# Altium footprint library Passive_Device.PcbLib: 14 footprints
Each footprint in its own frame and in the unit in brackets; x right, y up, seen from the top. Pads: shape width x height; smd on the part's side, far side on the other; paste and mask are expansions set on the pad; w line width, h text height; cw(c..) or ccw(c..) is an arc to the next point about the centre after c.
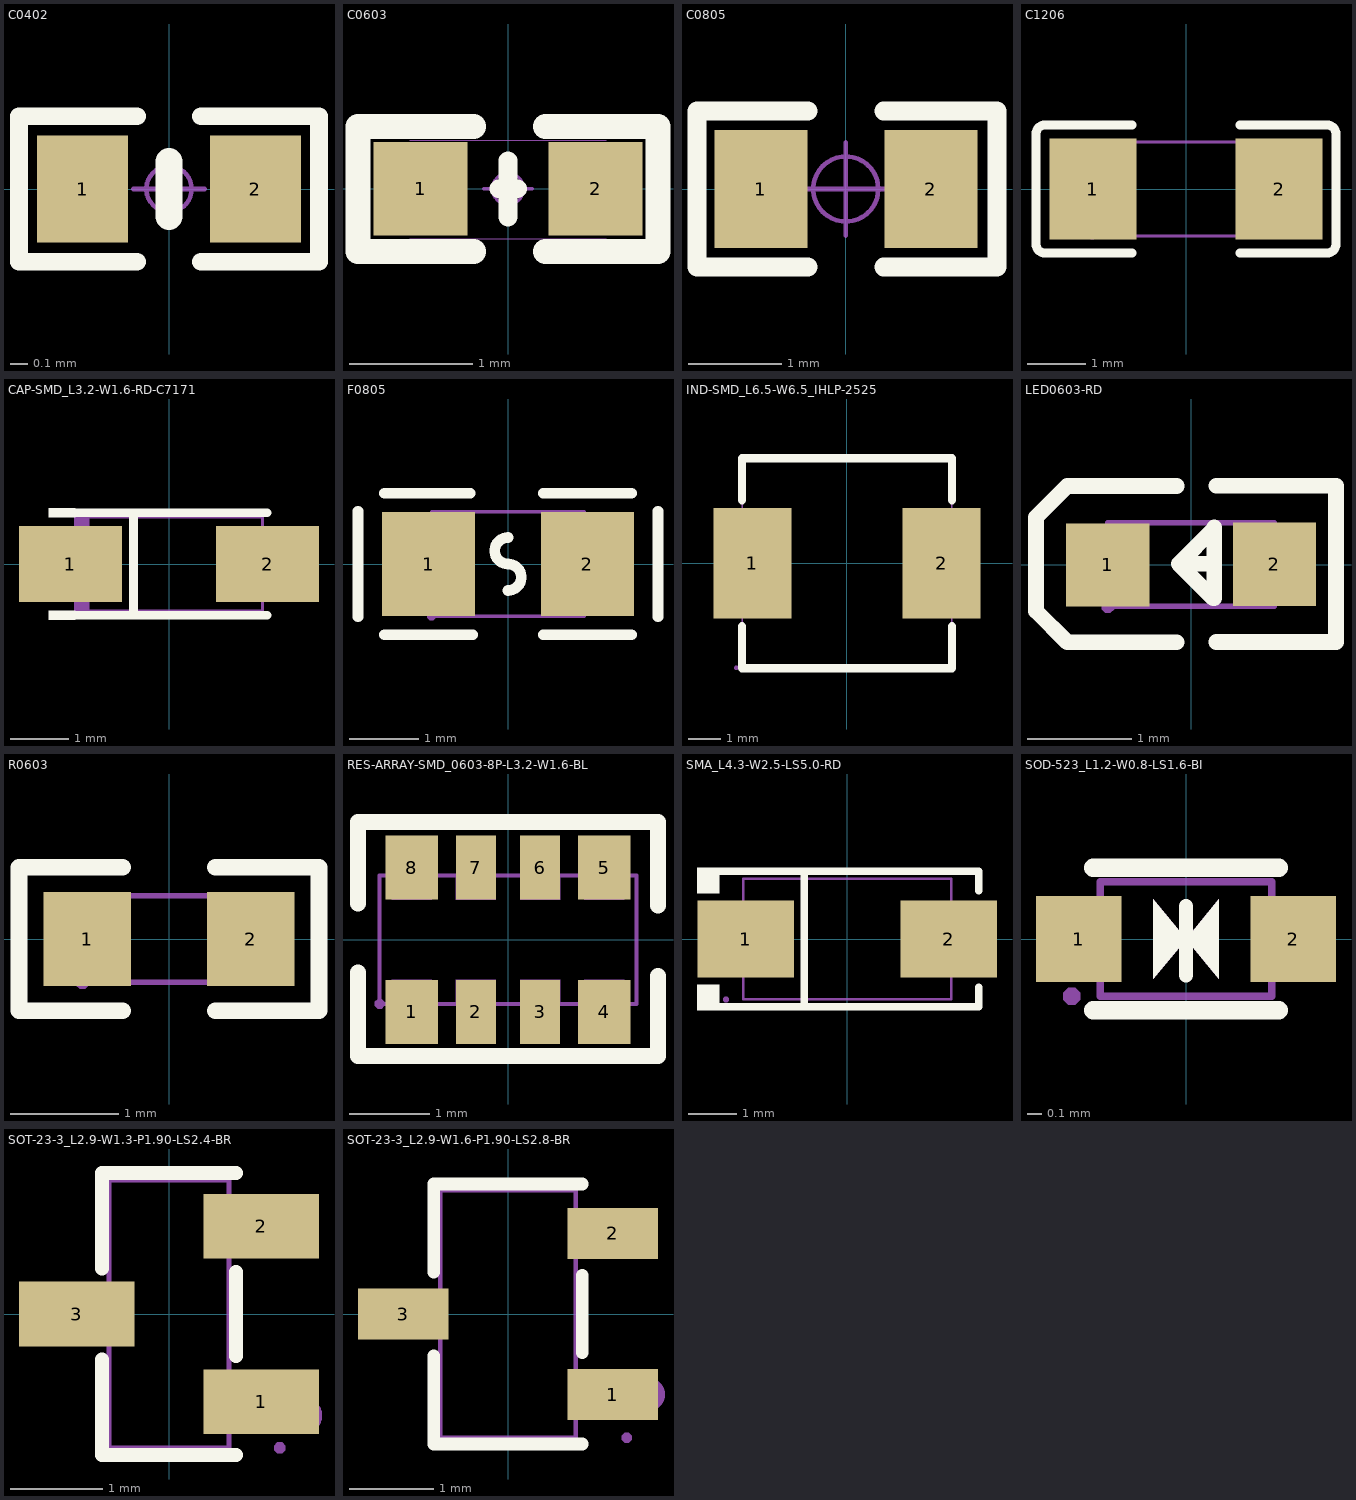
[diagram p0: the footprints below, top view; thin cyan lines are the x and y axes]

## C0402 [mil] "无极性贴片电容"
pads (2):
  rect 20x23.62 smd mask+2: 1(-19,0) 2(19,0)
Top Overlay:
  lines w3.94: -7,-16 -33,-16 -33,16 -7,16 ; 7,-16 33,-16 33,16 7,16
  lines w6: 0,-6 0,6
Mechanical 15:
  circle w1: c0,0 r5
  lines w1: -7.87,0 7.88,0 ; 0,-7.87 0,7.88
3D body "C 0402.STEP": height 20.08, standoff -0.39, extent -19.69,-10.24 19.69,10.24

## C0603 [mil] "无极性贴片电容"
pads (2):
  rect 30x30 smd mask+2: 1(-28,0) 2(28,0)
Top Overlay:
  lines w6: -3,0 0,0 3,0 ; 0,-9 0,9
  lines w7.87: -11,-20.06 -48,-20.06 -48,19.94 -11,19.94 ; 12,-20.06 48,-20.06 48,19.94 12,19.94
Mechanical 13:
  lines w0.39: -31.5,-16 31.5,-16 ; -31.5,15.5 31.5,15.5
Mechanical 15:
  circle w1: c0,0 r5
  lines w1: -7.87,0 7.87,0 ; 0,-7.87 0,7.87
3D body "C 0603.STEP": height 31.89, standoff -0.39, extent -31.5,-16.14 31.5,16.14

## C0805 [mm] "无极性贴片电容"
height 0.5
pads (2):
  rect 1x1.27 smd: 1(-0.914,0) 2(0.914,0)
Top Overlay:
  lines w0.2: -0.406,-0.838 -1.6,-0.838 -1.6,0.838 -0.406,0.838 ; 0.406,-0.838 1.626,-0.838 1.626,0.838 0.406,0.838
Mechanical 15:
  circle w0.05: c0,0 r0.35
  lines w0.05: -0.5,0 0.5,0 ; 0,-0.5 0,0.5
3D body "C 0805.STEP": height 0.51, standoff -0.01, extent -1,-0.61 1,0.61

## C1206 [mm] "无极性贴片电容"
pads (2):
  rect 1.485x1.728 smd paste-100 mask+0.051: 1(-1.593,0) 2(1.593,0)
Top Overlay:
  lines w0.152: -0.926,-1.093 -2.411,-1.093 cw(c-2.411,-0.94) -2.564,-0.94 -2.564,0.94 cw(c-2.411,0.94) -2.411,1.093 -0.926,1.093 ; 0.926,-1.093 2.411,-1.093 ccw(c2.411,-0.94) 2.564,-0.94 2.564,0.94 ccw(c2.411,0.94) 2.411,1.093 0.926,1.093
Top Paste:
  region: -0.85,-0.764 -0.85,-0.394 -0.95,-0.294 -1.255,-0.294 -1.355,-0.194 -1.355,0.194 -1.255,0.294 -0.95,0.294 -0.85,0.394 -0.85,0.764 -0.95,0.864 -2.235,0.864 -2.335,0.764 -2.335,-0.764 -2.235,-0.864 -0.95,-0.864
  region: 0.85,-0.764 0.85,-0.394 0.95,-0.294 1.255,-0.294 1.355,-0.194 1.355,0.194 1.255,0.294 0.95,0.294 0.85,0.394 0.85,0.764 0.95,0.864 2.235,0.864 2.335,0.764 2.335,-0.764 2.235,-0.864 0.95,-0.864
Mechanical 15:
  region: 1.6,-0.8 1.6,0.8 1.1,0.8 1.1,-0.8
  region: -1.6,-0.8 -1.6,0.8 -1.1,0.8 -1.1,-0.8
  region: -1.54,-0.8 -1.54,-0.775 -1.575,-0.74 -1.625,-0.74 -1.66,-0.775 -1.66,-0.8 -1.66,-0.825 -1.625,-0.86 -1.575,-0.86 -1.54,-0.825 -1.54,-0.8
  lines w0.051: -1.6,-0.8 1.6,-0.8 1.6,0.8 -1.6,0.8 -1.6,-0.8
3D body "User Library-C1206-1.STEP": height 1.11, standoff -0.01, extent -1.727,-0.81 1.473,0.81

## CAP-SMD_L3.2-W1.6-RD-C7171 [mm]
pads (2):
  rect 1.758x1.296 smd paste+0 mask+0.051: 1(-1.686,0) 2(1.686,0)
Top Overlay:
  region: -1.6,0.952 -1.6,0.8 -2.057,0.8 -2.057,0.952
  region: -1.6,-0.952 -1.6,-0.8 -2.057,-0.8 -2.057,-0.952
  lines w0.152: -1.676,-0.876 1.676,-0.876 ; -1.676,0.876 1.676,0.876 ; -0.604,-0.876 -0.604,0.876
Mechanical 6:
  region: -1.6,-0.8 -1.6,-0.4 -1.36,-0.4 -1.36,-0.8
  region: -1.6,0.8 -1.6,0.4 -1.36,0.4 -1.36,0.8
  region: -1.3,0.4 -1.3,-0.4 -1.18,-0.4 -1.18,0.4
  region: -1.48,0.06 -1.48,-0.06 -1,-0.06 -1,0.06
  region: 1.48,0.06 1.48,-0.06 1,-0.06 1,0.06
Mechanical 15:
  region: -1.83,0.6 -1.83,-0.6 -0.98,-0.6 -0.98,0.6
  region: 1.83,0.6 1.83,-0.6 0.98,-0.6 0.98,0.6
  region: -1.718,0.889 -1.718,0.914 -1.753,0.949 -1.803,0.949 -1.838,0.914 -1.838,0.889 -1.838,0.864 -1.803,0.829 -1.753,0.829 -1.718,0.864 -1.718,0.889
  lines w0.051: -1.6,-0.8 -1.6,0.8 1.6,0.8 1.6,-0.8 -1.6,-0.8
3D body "CAP-SMD_L3.2-W1.6-RD-C7171.STEP": height 1.7, standoff 0, extent -1.727,-0.8 1.473,0.8

## F0805 [mm]
pads (2):
  rect 1.335x1.5 smd paste-100 mask+0.051: 1(-1.142,0) 2(1.142,0)
Top Overlay:
  lines w0.152: -2.159,-0.762 -2.159,0.762 ; -1.778,-1.016 -0.508,-1.016 ; -1.778,1.016 -0.545,1.016 ; 0,-0.381 ccw(c0,-0.191) 0,0 cw(c0,0.191) 0,0.381 ; 0.508,-1.016 1.778,-1.016 ; 0.508,1.016 1.778,1.016 ; 2.159,-0.762 2.159,0.762
Top Paste:
  region: 0.475,-0.62 0.475,-0.2 0.92,-0.2 0.92,0.25 0.48,0.25 0.475,0.66 0.525,0.71 1.675,0.71 1.725,0.66 1.725,-0.62 1.675,-0.67 0.525,-0.67
  region: -1.675,-0.62 -1.675,0.66 -1.625,0.71 -0.475,0.71 -0.425,0.66 -0.42,0.25 -0.87,0.25 -0.87,-0.2 -0.43,-0.2 -0.425,-0.62 -0.475,-0.67 -1.625,-0.67
Mechanical 15:
  region: 1.1,-0.75 0.9,-0.75 0.9,0.75 1.1,0.75
  region: -1.1,0.75 -0.9,0.75 -0.9,-0.75 -1.1,-0.75
  region: -1.04,-0.75 -1.04,-0.725 -1.075,-0.69 -1.125,-0.69 -1.16,-0.725 -1.16,-0.75 -1.16,-0.775 -1.125,-0.81 -1.075,-0.81 -1.04,-0.775 -1.04,-0.75
  lines w0.051: -1.1,-0.75 1.1,-0.75 1.1,0.75 -1.1,0.75 -1.1,-0.75
3D body "F0805.STEP": height 0.8, standoff 0, extent -1.05,-0.7 1.05,0.7

## IND-SMD_L6.5-W6.5_IHLP-2525 [mm] "贴片电感"
pads (2):
  rect 2.42x3.43 smd paste+0 mask+0.051: 1(-2.925,0) 2(2.925,0)
Top Overlay:
  lines w0.254: -3.25,-1.946 -3.25,-3.25 3.25,-3.25 3.25,-1.946 ; -3.25,1.946 -3.25,3.25 3.25,3.25 3.25,1.946
Mechanical 15:
  region: 2.156,1.59 3.426,1.59 3.426,-1.59 2.156,-1.59
  region: -3.425,1.59 -2.155,1.59 -2.155,-1.59 -3.425,-1.59
  region: -3.365,-3.235 -3.365,-3.21 -3.401,-3.175 -3.45,-3.175 -3.485,-3.21 -3.485,-3.235 -3.485,-3.26 -3.45,-3.295 -3.401,-3.295 -3.365,-3.26 -3.365,-3.235
  lines w0.051: -3.235,-3.235 3.235,-3.235 3.235,3.235 -3.235,3.235 -3.235,-3.235
3D body "IND-SMD_L6.5-W6.5_IHLP-2525.STEP": height 2.97, standoff -0.03, extent -3.43,-3.235 3.43,3.235

## LED0603-RD [mm] "LED0603"
pads (2):
  rect 0.8x0.8 smd paste+0 mask+0.051: 1(-0.799,-0.003) 2(0.799,0.003)
Top Overlay:
  lines w0.15: -0.14,-0.746 -1.19,-0.746 -1.49,-0.446 -1.49,-0.346 -1.49,0.354 -1.49,0.454 -1.19,0.754 -0.14,0.754 ; 0.22,0.007 -0.12,0.007 ; 0.24,-0.744 1.39,-0.744 ; 0.24,0.757 1.39,0.757 1.39,-0.723 ; -0.12,0.007 0.22,0.347 0.22,0.357 0.22,-0.324 0.21,-0.324 -0.12,0.007
Mechanical 6:
  region: 0.529,0.068 1.069,0.068 1.069,-0.062 0.529,-0.062
  region: 0.735,-0.267 0.735,0.273 0.865,0.273 0.865,-0.267
  region: -1.07,0.062 -0.53,0.062 -0.53,-0.068 -1.07,-0.068
Mechanical 15:
  region: 0.5,-0.396 0.5,0.404 0.8,0.404 0.8,-0.396
  region: -0.8,-0.403 -0.8,0.397 -0.5,0.397 -0.5,-0.403
  region: -0.739,-0.403 -0.739,-0.379 -0.775,-0.344 -0.824,-0.344 -0.859,-0.379 -0.859,-0.403 -0.859,-0.428 -0.824,-0.463 -0.775,-0.463 -0.739,-0.428 -0.739,-0.403
  lines w0.051: -0.8,-0.4 0.8,-0.4 0.8,0.4 -0.8,0.4 -0.8,-0.4
3D body "LED0603-RD.STEP": height 0.56, standoff 0, extent -0.81,-0.41 0.81,0.41

## R0603 [mm] "R0603"
pads (2):
  rect 0.806x0.864 smd paste-100 mask+0.051: 1(-0.753,0) 2(0.753,0)
Top Overlay:
  lines w0.152: -0.426,-0.661 -1.385,-0.661 -1.385,0.661 -0.426,0.661 ; 0.426,-0.661 1.385,-0.661 1.385,0.661 0.426,0.661
Top Paste:
  region: 1.195,0.45 0.395,0.45 0.345,0.4 0.345,0.172 0.715,0.172 0.715,-0.158 0.345,-0.158 0.345,-0.4 0.395,-0.45 1.195,-0.45 1.245,-0.4 1.245,0.4
  region: -0.355,0.4 -0.355,0.172 -0.735,0.172 -0.735,-0.158 -0.355,-0.158 -0.355,-0.4 -0.405,-0.45 -1.195,-0.45 -1.245,-0.4 -1.245,0.4 -1.195,0.45 -0.405,0.45
Mechanical 15:
  region: -0.74,-0.4 -0.74,-0.375 -0.775,-0.34 -0.825,-0.34 -0.86,-0.375 -0.86,-0.4 -0.86,-0.425 -0.825,-0.46 -0.775,-0.46 -0.74,-0.425 -0.74,-0.4
  region: -0.8,-0.4 -0.8,0.4 -0.5,0.4 -0.5,-0.4
  region: 0.8,-0.4 0.8,0.4 0.5,0.4 0.5,-0.4
  lines w0.051: -0.8,-0.4 -0.8,0.4 0.8,0.4 0.8,-0.4 -0.8,-0.4
3D body "User Library-Res-0603.STEP": height 0.42, standoff 0, extent -0.8,-0.4 0.8,0.4

## RES-ARRAY-SMD_0603-8P-L3.2-W1.6-BL [mm] "排阻0603*4"
pads (8):
  rect 0.65x0.8 smd paste+0 mask+0.051: 1(-1.2,-0.9) 4(1.2,-0.9) 5(1.2,0.9) 8(-1.2,0.9)
  rect 0.5x0.8 smd paste+0 mask+0.051: 2(-0.4,-0.9) 3(0.4,-0.9) 6(0.4,0.9) 7(-0.4,0.9)
Top Overlay:
  lines w0.2: -1.87,-0.41 -1.87,-1.45 1.87,-1.45 1.87,-0.45 ; -1.87,0.45 -1.87,1.47 1.87,1.47 1.87,0.43
Mechanical 15:
  region: 0.95,0.5 0.95,0.8 1.45,0.8 1.45,0.5
  region: -0.65,0.5 -0.65,0.8 -0.15,0.8 -0.15,0.5
  region: 0.95,-0.8 0.95,-0.5 1.45,-0.5 1.45,-0.8
  region: 0.15,0.5 0.15,0.8 0.65,0.8 0.65,0.5
  region: 0.15,-0.8 0.15,-0.5 0.65,-0.5 0.65,-0.8
  region: -0.65,-0.8 -0.65,-0.5 -0.15,-0.5 -0.15,-0.8
  region: -1.45,0.5 -1.45,0.8 -0.95,0.8 -0.95,0.5
  region: -1.45,-0.8 -1.45,-0.5 -0.95,-0.5 -0.95,-0.8
  region: -1.54,-0.8 -1.54,-0.775 -1.575,-0.74 -1.625,-0.74 -1.66,-0.775 -1.66,-0.8 -1.66,-0.825 -1.625,-0.86 -1.575,-0.86 -1.54,-0.825 -1.54,-0.8
  lines w0.051: -1.6,-0.8 1.6,-0.8 1.6,0.8 -1.6,0.8 -1.6,-0.8
3D body "RES-ARRAY-SMD_0603-8P-L3.2-W1.6-BL.STEP": height 0.53, standoff 0.03, extent -1.6,-0.8 1.601,0.8

## SMA_L4.3-W2.5-LS5.0-RD [mm] "二极管"
pads (2):
  rect 2x1.593 smd paste+0 mask+0.051: 1(-2.1,0) 2(2.1,0)
Top Overlay:
  region: -2.65,-1.477 -2.65,-0.949 -3.107,-0.949 -3.107,-1.477
  region: -2.65,1.477 -2.65,0.949 -3.107,0.949 -3.107,1.477
  lines w0.152: -2.726,-1.401 2.726,-1.401 2.726,-1 ; -2.726,1.401 2.726,1.401 2.726,1 ; -0.886,-1.401 -0.886,1.401
Mechanical 6:
  region: 2.153,-0.663 2.153,0.663 1.954,0.663 1.954,-0.663
  region: 2.451,-0.099 2.451,0.099 1.656,0.099 1.656,-0.099
  region: -2.451,-0.099 -2.451,0.099 -1.656,0.099 -1.656,-0.099
Mechanical 15:
  region: 1.307,-0.725 1.307,0.725 2.507,0.725 2.507,-0.725
  region: -1.307,0.725 -1.307,-0.725 -2.507,-0.725 -2.507,0.725
  region: -2.447,-1.25 -2.447,-1.225 -2.482,-1.19 -2.532,-1.19 -2.567,-1.225 -2.567,-1.25 -2.567,-1.275 -2.532,-1.31 -2.482,-1.31 -2.447,-1.275 -2.447,-1.25
  lines w0.051: -2.15,-1.25 2.15,-1.25 2.15,1.25 -2.15,1.25 -2.15,-1.25
3D body "SMA_L4.3-W2.5-LS5.0-RD.STEP": height 2.05, standoff 0, extent -2.475,-1.143 2.475,1.357

## SOD-523_L1.2-W0.8-LS1.6-BI [mm]
pads (2):
  rect 0.6x0.6 smd paste+0 mask+0.051: 1(-0.75,0) 2(0.75,0)
Top Overlay:
  region: 0,0 -0.229,-0.279 -0.229,0.279
  region: 0,0 0.229,0.279 0.229,-0.279
  lines w0.1: 0,-0.254 0,0.229
  lines w0.13: -0.65,-0.5 0.65,-0.5 ; -0.65,0.5 0.65,0.5
Mechanical 6:
  region: 0.229,0.279 0.229,-0.279 0,0
  region: -0.229,0.279 -0.229,-0.279 0,0
Mechanical 15:
  region: -0.8,0.15 -0.463,0.15 -0.463,-0.15 -0.8,-0.15
  region: 0.8,-0.152 0.463,-0.152 0.463,0.148 0.8,0.148
  region: -0.74,-0.4 -0.74,-0.375 -0.775,-0.34 -0.825,-0.34 -0.86,-0.375 -0.86,-0.4 -0.86,-0.425 -0.825,-0.46 -0.775,-0.46 -0.74,-0.425 -0.74,-0.4
  lines w0.051: -0.6,-0.4 0.6,-0.4 0.6,0.4 -0.6,0.4 -0.6,-0.4
3D body "SOD-523_L1.2-W0.8-LS1.6-BI.STEP": height 0.71, standoff 0, extent -0.8,-0.4 0.8,0.4

## SOT-23-3_L2.9-W1.3-P1.90-LS2.4-BR [mm] "SS8050"
pads (3):
  rect 1.25x0.7 smd paste+0 mask+0.051: 1(1,-0.95) 2(1,0.95) 3(-1,0)
Top Overlay:
  lines w0.152: -0.726,-0.495 -0.726,-1.526 0.726,-1.526 ; -0.726,0.495 -0.726,1.526 0.726,1.526 ; 0.726,-0.455 0.726,0.455
Mechanical 6:
  circle w0.2: c1.46,-1.1 r0.1
Mechanical 15:
  region: -1.2,-0.215 -1.2,0.215 -0.9,0.215 -0.9,-0.215
  region: -0.91,-0.215 -0.91,0.215 -0.64,0.215 -0.64,-0.215
  region: 0.9,-1.165 0.9,-0.735 1.2,-0.735 1.2,-1.165
  region: 0.64,-1.165 0.64,-0.735 0.91,-0.735 0.91,-1.165
  region: 0.9,0.735 0.9,1.165 1.2,1.165 1.2,0.735
  region: 0.64,0.735 0.64,1.165 0.91,1.165 0.91,0.735
  region: 1.26,-1.45 1.26,-1.425 1.225,-1.39 1.175,-1.39 1.14,-1.425 1.14,-1.45 1.14,-1.475 1.175,-1.51 1.225,-1.51 1.26,-1.475 1.26,-1.45
  lines w0.051: -0.65,-1.45 0.65,-1.45 0.65,1.45 -0.65,1.45 -0.65,-1.45
3D body "SOT-23-3_L2.9-W1.3-P1.90-LS2.4-BR.STEP": height 1.05, standoff 0, extent -1.123,-1.447 1.377,1.447

## SOT-23-3_L2.9-W1.6-P1.90-LS2.8-BR [mm] "SS8550"
pads (3):
  rect 1.07x0.6 smd paste+0 mask+0.051: 1(1.235,-0.95) 2(1.235,0.95) 3(-1.235,0)
Top Overlay:
  lines w0.152: -0.876,-0.495 -0.876,-1.536 0.876,-1.536 ; -0.876,0.495 -0.876,1.536 0.876,1.536 ; 0.876,-0.455 0.876,0.455
Mechanical 6:
  circle w0.2: c1.651,-0.95 r0.1
Mechanical 15:
  region: 1.46,-1.46 1.46,-1.435 1.425,-1.4 1.375,-1.4 1.34,-1.435 1.34,-1.46 1.34,-1.485 1.375,-1.52 1.425,-1.52 1.46,-1.485 1.46,-1.46
  region: 0.95,-1.15 0.95,-0.75 1.4,-0.75 1.4,-1.15
  region: 0.79,-1.15 0.79,-0.75 0.96,-0.75 0.96,-1.15
  region: 0.95,0.75 0.95,1.15 1.4,1.15 1.4,0.75
  region: 0.79,0.75 0.79,1.15 0.96,1.15 0.96,0.75
  region: -0.95,-0.2 -0.95,0.2 -1.4,0.2 -1.4,-0.2
  region: -0.96,-0.2 -0.96,0.2 -0.79,0.2 -0.79,-0.2
  lines w0.051: -0.8,-1.46 -0.8,1.46 0.8,1.46 0.8,-1.46 -0.8,-1.46
3D body "SOT-23-3_L2.9-W1.3-P1.90-LS2.4-BR.STEP": height 1.02, standoff -0.03, extent -1.25,-1.447 1.25,1.447